# Altium footprint library PcbLib1.PcbLib: 74 footprints (part 5 of 5)
Each footprint in its own frame and in the unit in brackets; x right, y up, seen from the top. Pads: shape width x height; smd on the part's side, far side on the other; paste and mask are expansions set on the pad; w line width, h text height; cw(c..) or ccw(c..) is an arc to the next point about the centre after c.
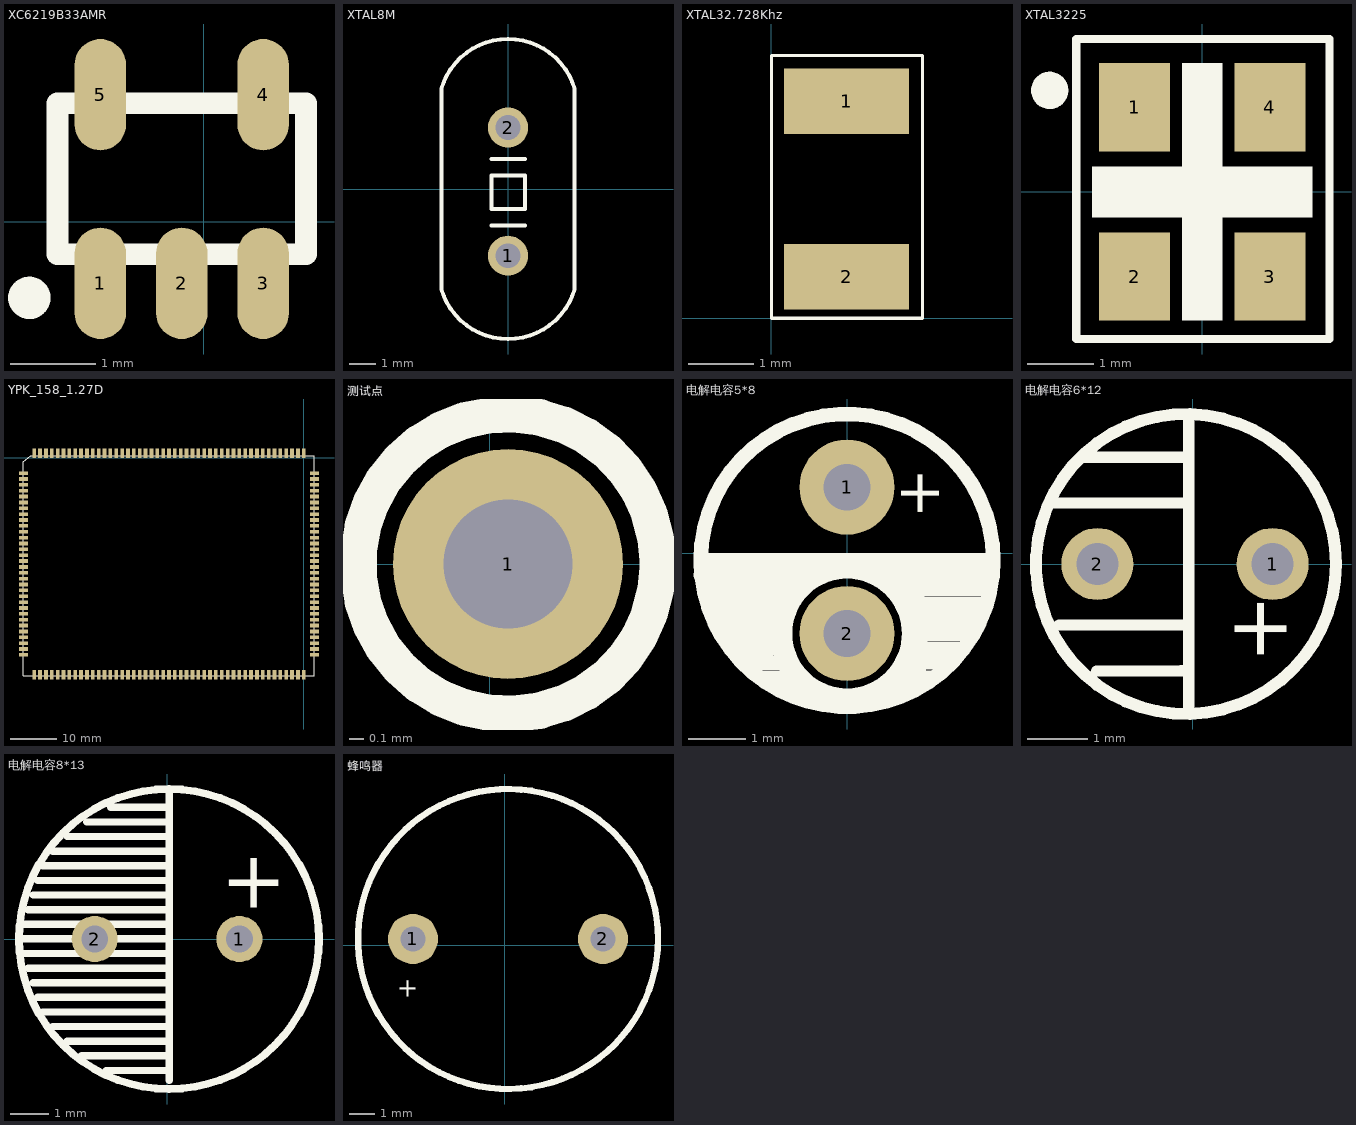
[diagram p4: the footprints below, top view; thin cyan lines are the x and y axes]

## XC6219B33AMR [mm]
pads (5):
  oval 0.6x1.3 smd: 1(-1.204,-0.719) 2(-0.254,-0.719) 3(0.696,-0.719) 4(0.696,1.481) 5(-1.204,1.481)
Top Overlay:
  circle w0.254: c-2.032,-0.889 r0.12
  lines w0.254: -1.704,-0.381 1.196,-0.381 1.196,1.381 -1.704,1.381 -1.704,-0.381

## XTAL8M [mil]
pads (2):
  round 60 hole 37: 1(0,-100) 2(0,92.13)
Top Overlay:
  lines w6: -24.84,-54.92 25.16,-54.92 ; -24.84,45.08 25.16,45.08 ; -100,-150 ccw(c0,-120.76) 100,-150 100,150 ccw(c0,120.76) -100,150 -100,-150 ; -24.84,-29.92 -24.84,20.08 25.16,20.08 25.16,-29.92 -24.84,-29.92

## XTAL32.728Khz [mm]
pads (2):
  rect 1.9x1 smd: 1(1.143,3.302) 2(1.143,0.635)
Top Overlay:
  lines w0.05: 0,0 2.3,0 2.3,4 0,4 0,0

## XTAL3225 [mil]
pads (4):
  rect 42x52 smd: 1(-40,50) 2(-40,-50) 3(40,-50) 4(40,50)
Top Overlay:
  circle w11.81: c-90.09,60 r5.09
  region: -65,15 -65,-15 65,-15 65,15
  region: -12,76 -12,-76 12,-76 12,76
  lines w5: -74.46,-86.85 -74.46,90.31 75.15,90.31 75.15,46.02 75.15,-42.56 75.15,-86.85 -74.46,-86.85

## YPK_158_1.27D [mm] "A33_core"
pads (158):
  rect 2x0.8 smd: 1(-60.71,-3.315) 2(-60.71,-4.585) 3(-60.71,-5.855) 4(-60.71,-7.125) 5(-60.71,-8.395) 6(-60.71,-9.665) 7(-60.71,-10.935) 8(-60.71,-12.205) 9(-60.71,-13.475) 10(-60.71,-14.745) 11(-60.71,-16.015) 12(-60.71,-17.285) 13(-60.71,-18.555) 14(-60.71,-19.825) 15(-60.71,-21.095) 16(-60.71,-22.365) 17(-60.71,-23.635) 18(-60.71,-24.905) 19(-60.71,-26.175) 20(-60.71,-27.445) 21(-60.71,-28.715) 22(-60.71,-29.985) 23(-60.71,-31.255) 24(-60.71,-32.525) 25(-60.71,-33.795) 26(-60.71,-35.065) 27(-60.71,-36.335) 28(-60.71,-37.605) 29(-60.71,-38.875) 30(-60.71,-40.145) 31(-60.71,-41.415) 32(-60.71,-42.685) 80(2.29,-42.685) 81(2.29,-41.415) 82(2.29,-40.145) 83(2.29,-38.875) 84(2.29,-37.605) 85(2.29,-36.335) 86(2.29,-35.065) 87(2.29,-33.795) 88(2.29,-32.525) 89(2.29,-31.255) 90(2.29,-29.985) 91(2.29,-28.715) 92(2.29,-27.445) 93(2.29,-26.175) 94(2.29,-24.905) 95(2.29,-23.635) 96(2.29,-22.365) 97(2.29,-21.095) 98(2.29,-19.825) 99(2.29,-18.555) 100(2.29,-17.285) 101(2.29,-16.015) 102(2.29,-14.745) 103(2.29,-13.475) 104(2.29,-12.205) 105(2.29,-10.935) 106(2.29,-9.665) 107(2.29,-8.395) 108(2.29,-7.125) 109(2.29,-5.855) 110(2.29,-4.585) 111(2.29,-3.315)
  rect 0.8x2 smd: 33(-58.42,-47) 34(-57.15,-47) 35(-55.88,-47) 36(-54.61,-47) 37(-53.34,-47) 38(-52.07,-47) 39(-50.8,-47) 40(-49.53,-47) 41(-48.26,-47) 42(-46.99,-47) 43(-45.72,-47) 44(-44.45,-47) 45(-43.18,-47) 46(-41.91,-47) 47(-40.64,-47) 48(-39.37,-47) 49(-38.1,-47) 50(-36.83,-47) 51(-35.56,-47) 52(-34.29,-47) 53(-33.02,-47) 54(-31.75,-47) 55(-30.48,-47) 56(-29.21,-47) 57(-27.94,-47) 58(-26.67,-47) 59(-25.4,-47) 60(-24.13,-47) 61(-22.86,-47) 62(-21.59,-47) 63(-20.32,-47) 64(-19.05,-47) 65(-17.78,-47) 66(-16.51,-47) 67(-15.24,-47) 68(-13.97,-47) 69(-12.7,-47) 70(-11.43,-47) 71(-10.16,-47) 72(-8.89,-47) 73(-7.62,-47) 74(-6.35,-47) 75(-5.08,-47) 76(-3.81,-47) 77(-2.54,-47) 78(-1.27,-47) 79(0,-47) 112(0,1) 113(-1.27,1) 114(-2.54,1) 115(-3.81,1) 116(-5.08,1) 117(-6.35,1) 118(-7.62,1) 119(-8.89,1) 120(-10.16,1) 121(-11.43,1) 122(-12.7,1) 123(-13.97,1) 124(-15.24,1) 125(-16.51,1) 126(-17.78,1) 127(-19.05,1) 128(-20.32,1) 129(-21.59,1) 130(-22.86,1) 131(-24.13,1) 132(-25.4,1) 133(-26.67,1) 134(-27.94,1) 135(-29.21,1) 136(-30.48,1) 137(-31.75,1) 138(-33.02,1) 139(-34.29,1) 140(-35.56,1) 141(-36.83,1) 142(-38.1,1) 143(-39.37,1) 144(-40.64,1) 145(-41.91,1) 146(-43.18,1) 147(-44.45,1) 148(-45.72,1) 149(-46.99,1) 150(-48.26,1) 151(-49.53,1) 152(-50.8,1) 153(-52.07,1) 154(-53.34,1) 155(-54.61,1) 156(-55.88,1) 157(-57.15,1) 158(-58.42,1)
Top Overlay:
  lines w0.127: -60.82,-47.244 -60.82,-0.864 -59.202,0.5 2.286,0.5 2.286,-47.244 -60.82,-47.244

## 测试点 [mm]
pads (1):
  round 1.6 hole 0.9: 1(0.127,0)
Top Overlay:
  circle w0.254: c0.127,0 r1.043

## 电解电容5*8 [mil]
pads (2):
  round 65 hole 32: 1(0,45) 2(0,-55)
Top Overlay:
  circle w10: c0,-5 r100
  circle w15: c0,-55 r45
  region: -100.39,-4.99 -100.39,-14.99 99.61,-14.99 99.61,-4.99
  region: 30,-4.63 30,-29.63 95,-29.63 95,-4.63
  region: 45.4,-30 45.4,-45 95.4,-45 95.4,-30
  region: 50.38,-44.98 50.38,-59.98 89.38,-59.98 89.38,-44.98
  region: 50,-60.41 50,-70.41 80,-70.41 80,-60.41
  region: 45,-69.63 45,-79.63 70,-79.63 70,-69.63
  region: 40,-80.37 40,-90.37 60,-90.37 60,-80.37
  region: 35,-80.41 35,-95.41 45,-95.41 45,-80.41
  region: -95,-5.37 -95,-30.37 -30,-30.37 -30,-5.37
  region: -95,-30.41 -95,-45.41 -45,-45.41 -45,-30.41
  region: -88.6,-45 -88.6,-60 -49.6,-60 -49.6,-45
  region: -80.41,-60 -80.41,-70 -50.41,-70 -50.41,-60
  region: -69.6,-70 -69.6,-80 -44.6,-80 -44.6,-70
  region: -60,-80.41 -60,-90.41 -40,-90.41 -40,-80.41
  region: -45,-80.41 -45,-95.41 -35,-95.41 -35,-80.41
  lines w10: -100,-15 -98,-15 -71,-42 -71,-75 -50,-54 -50,-43 -30,-23 -30,-21 ; -100,-5 100,-5 ; 29,-98 50,-77 50,-34 42,-26 42,-25
  text "+" at 37,58 h30

## 电解电容6*12 [mm]
pads (2):
  round 1.2 hole 0.7: 1(1.334,0) 2(-1.587,0)
Top Overlay:
  circle w0.2: c-0.111,0 r2.5
  lines w0.19: -2.349,1.016 -0.19,1.016 ; -2.222,-1.016 -0.19,-1.016 ; -1.841,1.778 -0.19,1.778 ; -1.596,-1.784 -0.19,-1.778 ; -0.063,-2.413 -0.063,2.413
  text "+" at 0.699,-1.651 h1

## 电解电容8*13 [mm]
pads (2):
  round 1.2 hole 0.7: 1(1.886,0) 2(-1.886,0)
Top Overlay:
  circle w0.2: c0.05,0 r3.91
  lines w0.19: -3.751,-0.378 -0.068,-0.378 ; -3.751,0.003 0.059,0.003 ; -3.751,0.384 0.059,0.384 ; -3.624,-0.759 0.059,-0.759 ; -3.624,0.765 0.059,0.765 ; -3.497,-1.14 0.059,-1.14 ; -3.497,1.146 0.059,1.146 ; -3.37,-1.521 0.059,-1.521 ; -3.37,1.527 0.059,1.527 ; -3.243,-1.902 0.059,-1.902 ; -3.243,1.908 0.059,1.908 ; -2.989,-2.283 0.059,-2.283 ; -2.989,2.289 -0.068,2.289 ; -2.608,-2.664 0.059,-2.664 ; -2.608,2.67 0.059,2.67 ; -2.227,-3.045 0.059,-3.045 ; -2.1,3.051 0.059,3.051 ; -1.592,-3.426 0.059,-3.426 ; -1.465,3.432 0.059,3.432 ; 0.059,-3.68 0.059,3.813
  text "+" at 1.397,0.813 h1.5

## 蜂鸣器 [mm]
pads (2):
  round 2 hole 1: 1(-3.673,0.254) 2(3.927,0.254)
Top Overlay:
  circle w0.254: c0.127,0.254 r6
  text "+" at -3.563,-1.29 h0.76